# Altium footprint library Mosfet.PcbLib: 8 footprints
Each footprint in its own frame and in the unit in brackets; x right, y up, seen from the top. Pads: shape width x height; smd on the part's side, far side on the other; paste and mask are expansions set on the pad; w line width, h text height; cw(c..) or ccw(c..) is an arc to the next point about the centre after c.
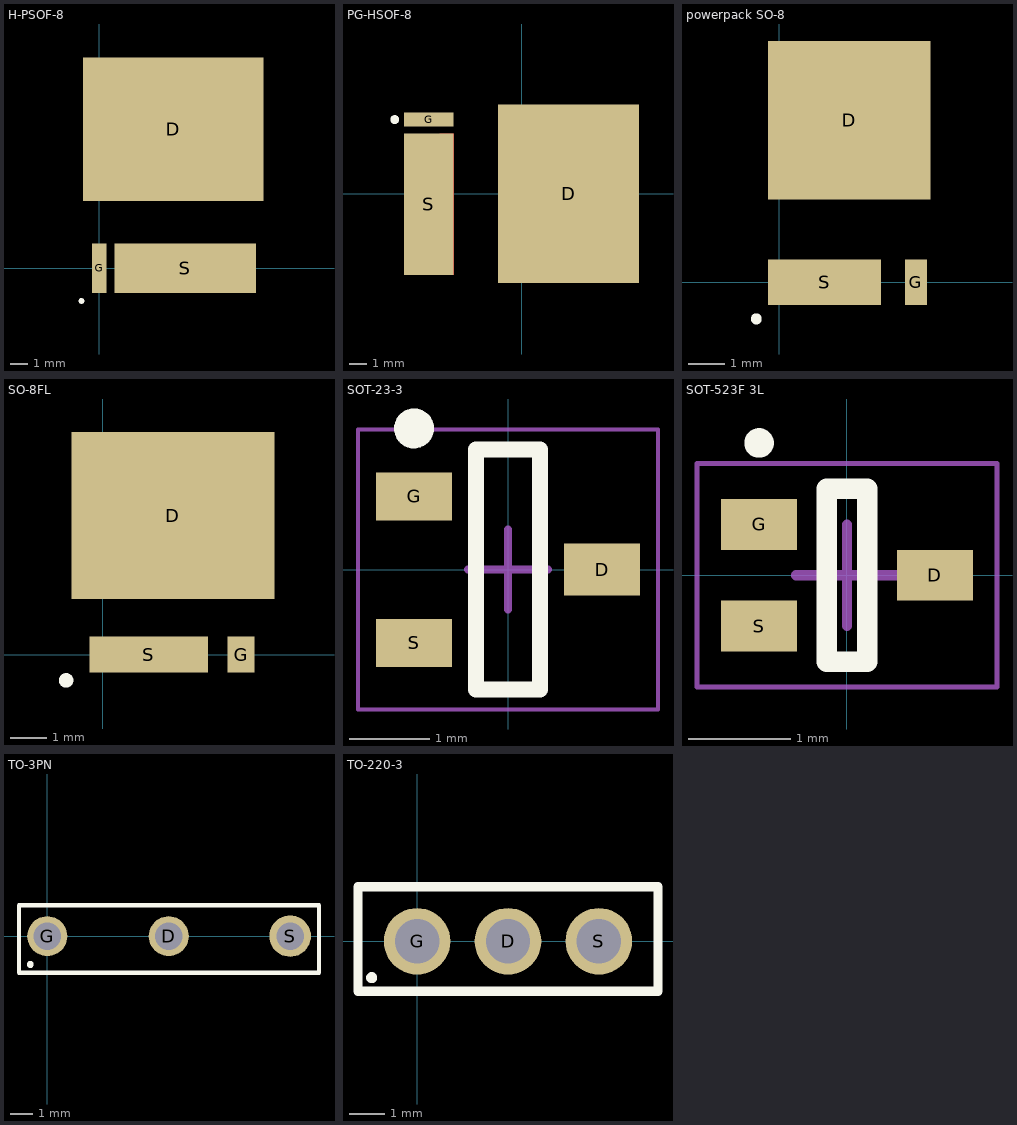
[diagram p0: the footprints below, top view; thin cyan lines are the x and y axes]

## H-PSOF-8 [mm]
pads (3):
  rect 10.2x8.1 smd: D(4.175,7.83)
  rect 0.8x2.8 smd: G(0,0)
  rect 8x2.8 smd: S(4.85,0)
Top Overlay:
  circle w0.254: c-1,-1.85 r0.035
3D body "User Library-H-PSOF-8-1.sldprt": height 2.3, standoff 0, extent -0.733,-0.478 9.167,11.197

## PG-HSOF-8 [mm] "HSOF, 8-Leads, Body 11.675x9.9mm, Pitch 1.2mm"
height 2.4
pads (3):
  rect 8x10.125 smd: D(2.65,0)
  rect 2.8x0.8 smd: G(-5.275,4.2)
  rect 2.8x8 smd: S(-5.275,-0.6)
Top Layer:
  region: -4.65,3.4 -4.65,-4.6 -3.85,-4.6 -3.85,3.4
Top Overlay:
  circle w0.25: c-7.199,4.2 r0.125
3D body: height 2.4, standoff 0, extent -5.837,-4.949 5.837,4.949

## powerpack SO-8 [mm]
pads (3):
  rect 4.52x4.42 smd: D(1.955,4.52)
  rect 0.61x1.27 smd: G(3.81,0)
  rect 3.15x1.27 smd: S(1.27,0)
Top Overlay:
  circle w0.254: c-0.635,-1.016 r0.025
3D body "User Library-PowerPAK SO-8 (S).STEP": height 1.04, standoff 0, extent -0.625,0.182 4.525,6.332

## SO-8FL [mm]
pads (3):
  rect 5.6x4.6 smd: D(1.93,3.835)
  rect 0.75x1 smd: G(3.81,0)
  rect 3.277x1 smd: S(1.263,0)
Top Overlay:
  circle w0.254: c-1.016,-0.711 r0.072
3D body "User Library-DFN5x6_SO8FL.STEP": height 1.13, standoff 0, extent -0.644,-0.249 4.506,5.901

## SOT-23-3 [mm] "SOT223, 3-Leads, Body 2,90x2,40mm (avg), Pitch 1,83mm, IPC Medium Density"
height 1.1
pads (3):
  rect 0.95x0.65 smd: D(1.175,0)
  rect 0.95x0.6 smd: G(-1.175,0.915) S(-1.175,-0.915)
Top Overlay:
  circle w0.25: c-1.175,1.765 r0.125
  lines w0.2: -0.4,-1.5 0.4,-1.5 0.4,1.5 -0.4,1.5 -0.4,-1.5
Mechanical 15:
  lines w0.05: -1.875,-1.75 1.875,-1.75 1.875,1.75 -1.875,1.75 -1.875,-1.75
  lines w0.1: -0.5,0 0.5,0 ; 0,-0.5 0,0.5
3D body "2n7002.stp": height 1, standoff 0, extent -1.15,-1.45 1.15,1.45

## SOT-523F 3L [mm] "SOT223, 3-Leads, Body 1,60x1,60mm (avg), Pitch 1,00mm, IPC Medium Density"
height 0.68
pads (3):
  rect 0.75x0.5 smd: D(0.865,0) G(-0.865,0.5) S(-0.865,-0.5)
Top Overlay:
  circle w0.25: c-0.865,1.3 r0.02
  lines w0.2: -0.2,-0.85 0.2,-0.85 0.2,0.85 -0.2,0.85 -0.2,-0.85
Mechanical 15:
  lines w0.05: -1.475,-1.1 1.475,-1.1 1.475,1.1 -1.475,1.1 -1.475,-1.1
  lines w0.1: -0.5,0 0.5,0 ; 0,-0.5 0,0.5
3D body: height 0.68, standoff 0.05, extent -0.49,-0.85 0.49,0.85

## TO-3PN [mm]
pads (3):
  round 1.8 hole 1.24: D(5.45,0) G(0,0)
  round 1.86 hole 1.24: S(10.9,0)
Top Overlay:
  circle w0.254: c-0.762,-1.27 r0.025
  lines w0.2: -1.27,-1.651 -1.27,1.397 12.192,1.397 12.192,-1.651 -1.27,-1.651
3D body "User Library-FDS24N50.STEP": height 23.33, standoff -5, extent -2.35,-3 13.25,1.8
3D body "User Library-FDS24N50.STEP": height 23.33, standoff -5, extent -2.35,-3 13.25,1.8
3D body "User Library-FDS24N50.STEP": height 23.33, standoff -5, extent -2.35,-3 13.25,1.8

## TO-220-3 [mm]
pads (3):
  round 1.86 hole 1.24: D(2.54,0) G(0,0) S(5.08,0)
Top Overlay:
  circle w0.254: c-1.27,-1.016 r0.025
  lines w0.254: -1.651,-1.397 6.731,-1.397 6.731,1.524 -1.651,1.524 -1.651,-1.397
3D body "ALSRobot-TO-220-3.step": height 19.3, standoff -9.48, extent -2.41,-1.96 7.49,2.54